# Altium schematic symbol library WE-MCRI.SchLib: 37 symbols
Pins are listed as number, name and electrical type; pins without a type are passive.

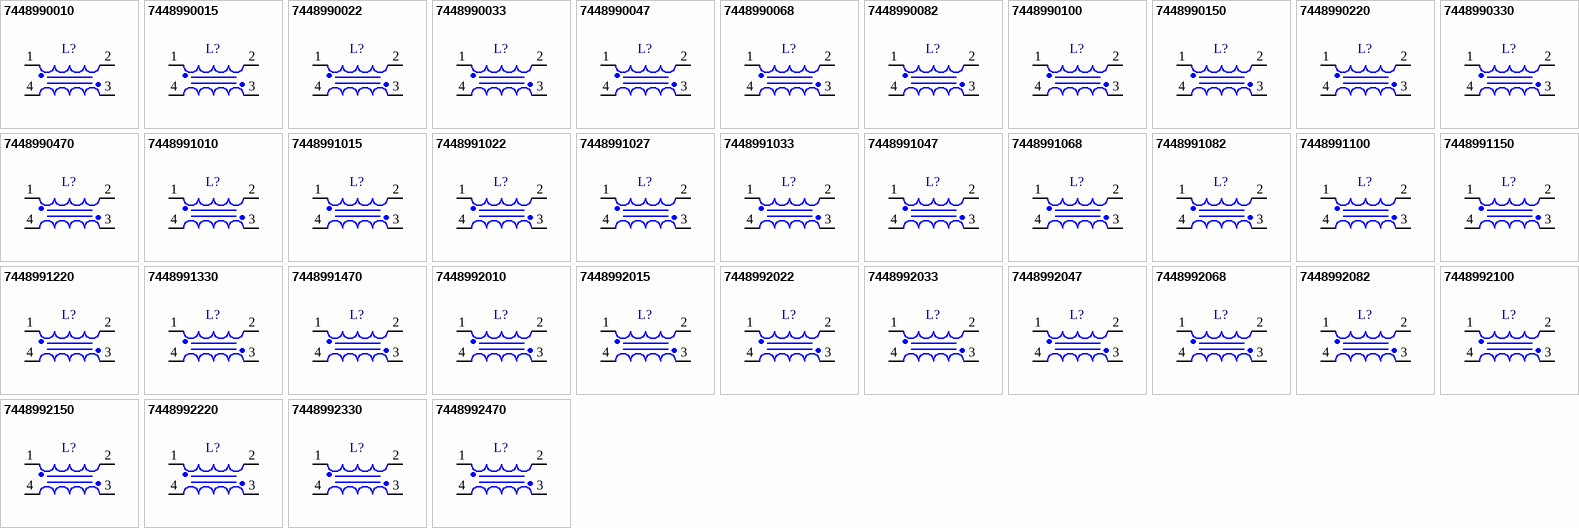
[diagram p0: symbols 7448990010 to 7448992470]

## 7448990010
designator L?, comment 1uH, 17A  (value not drawn)
WE-MCRI SMT Molded Coupled Inductor, size 1090, 1uH, 17A, 4.5mohm; Manufacturer Part Number: 7448990010; Manufacturer: Wurth Elektronik; Case/Size Code: 1090; Saturation Current 1 @ 30%: 43.5A; Turns Ratio: 1:1; Category: Power Inductors; Match Code: WE-MCRI; ComponentLink1Description: Website Link; ComponentLink1URL: https://www.we-online.com; ComponentLink2Description: Datasheet Link; ComponentLink2URL: https://www.we-online.com/components/products/datasheet/7448990010; Mount: Surface Mount; Operating Temperature Min: -40degC; Operating Temperature Max: 125degC; Packaging: Tape and Reel; Length: 11mm; Width: 10mm; Height: 9mm; DC Resistance 1: 4.5mohm; DC Resistance 2: 4.5mohm; Inductance 1: 1uH; Inductance 2: 1uH; Rated Current 1: 17A; Rated Current 2: 17A; Saturation Current 2 @ 30%: 43.5A
footprint WE-MCRI_1090
simulation model 1090_7448990010_1u
pins: 1, 2, 3, 4

## 7448990015
designator L?, comment 1.5uH, 12.5A  (value not drawn)
WE-MCRI SMT Molded Coupled Inductor, size 1090, 1.5uH, 12.5A, 8.8mohm; Manufacturer Part Number: 7448990015; Manufacturer: Wurth Elektronik; Case/Size Code: 1090; Saturation Current 1 @ 30%: 34A; Turns Ratio: 1:1; Category: Power Inductors; Match Code: WE-MCRI; ComponentLink1Description: Website Link; ComponentLink1URL: https://www.we-online.com; ComponentLink2Description: Datasheet Link; ComponentLink2URL: https://www.we-online.com/components/products/datasheet/7448990015; Mount: Surface Mount; Operating Temperature Min: -40degC; Operating Temperature Max: 125degC; Packaging: Tape and Reel; Length: 11mm; Width: 10mm; Height: 9mm; DC Resistance 1: 8.8mohm; DC Resistance 2: 8.8mohm; Inductance 1: 1.5uH; Inductance 2: 1.5uH; Rated Current 1: 12.5A; Rated Current 2: 12.5A; Saturation Current 2 @ 30%: 34A
footprint WE-MCRI_1090
simulation model 1090_7448990015_1.5u
pins: 1, 2, 3, 4

## 7448990022
designator L?, comment 2.2uH, 11.5A  (value not drawn)
WE-MCRI SMT Molded Coupled Inductor, size 1090, 2.2uH, 11.5A, 10.5mohm; Manufacturer Part Number: 7448990022; Manufacturer: Wurth Elektronik; Case/Size Code: 1090; Saturation Current 1 @ 30%: 29.5A; Turns Ratio: 1:1; Category: Power Inductors; Match Code: WE-MCRI; ComponentLink1Description: Website Link; ComponentLink1URL: https://www.we-online.com; ComponentLink2Description: Datasheet Link; ComponentLink2URL: https://www.we-online.com/components/products/datasheet/7448990022; Mount: Surface Mount; Operating Temperature Min: -40degC; Operating Temperature Max: 125degC; Packaging: Tape and Reel; Length: 11mm; Width: 10mm; Height: 9mm; DC Resistance 1: 10.5mohm; DC Resistance 2: 10.5mohm; Inductance 1: 2.2uH; Inductance 2: 2.2uH; Rated Current 1: 11.5A; Rated Current 2: 11.5A; Saturation Current 2 @ 30%: 29.5A
footprint WE-MCRI_1090
simulation model 1090_7448990022_2.2u
pins: 1, 2, 3, 4

## 7448990033
designator L?, comment 3.3uH, 7.5A  (value not drawn)
WE-MCRI SMT Molded Coupled Inductor, size 1090, 3.3uH, 7.5A, 23.5mohm; Manufacturer Part Number: 7448990033; Manufacturer: Wurth Elektronik; Case/Size Code: 1090; Saturation Current 1 @ 30%: 28.2A; Turns Ratio: 1:1; Category: Power Inductors; Match Code: WE-MCRI; ComponentLink1Description: Website Link; ComponentLink1URL: https://www.we-online.com; ComponentLink2Description: Datasheet Link; ComponentLink2URL: https://www.we-online.com/components/products/datasheet/7448990033; Mount: Surface Mount; Operating Temperature Min: -40degC; Operating Temperature Max: 125degC; Packaging: Tape and Reel; Length: 11mm; Width: 10mm; Height: 9mm; DC Resistance 1: 23.5mohm; DC Resistance 2: 23.5mohm; Inductance 1: 3.3uH; Inductance 2: 3.3uH; Rated Current 1: 7.5A; Rated Current 2: 7.5A; Saturation Current 2 @ 30%: 28.2A
footprint WE-MCRI_1090
simulation model 1090_7448990033_3.3u
pins: 1, 2, 3, 4

## 7448990047
designator L?, comment 4.7uH, 5.9A  (value not drawn)
WE-MCRI SMT Molded Coupled Inductor, size 1090, 4.7uH, 5.9A, 36mohm; Manufacturer Part Number: 7448990047; Manufacturer: Wurth Elektronik; Case/Size Code: 1090; Saturation Current 1 @ 30%: 24.2A; Turns Ratio: 1:1; Category: Power Inductors; Match Code: WE-MCRI; ComponentLink1Description: Website Link; ComponentLink1URL: https://www.we-online.com; ComponentLink2Description: Datasheet Link; ComponentLink2URL: https://www.we-online.com/components/products/datasheet/7448990047; Mount: Surface Mount; Operating Temperature Min: -40degC; Operating Temperature Max: 125degC; Packaging: Tape and Reel; Length: 11mm; Width: 10mm; Height: 9mm; DC Resistance 1: 36mohm; DC Resistance 2: 36mohm; Inductance 1: 4.7uH; Inductance 2: 4.7uH; Rated Current 1: 5.9A; Rated Current 2: 5.9A; Saturation Current 2 @ 30%: 24.2A
footprint WE-MCRI_1090
simulation model 1090_7448990047_4.7u
pins: 1, 2, 3, 4

## 7448990068
designator L?, comment 6.8uH, 5A  (value not drawn)
WE-MCRI SMT Molded Coupled Inductor, size 1090, 6.8uH, 5A, 46mohm; Manufacturer Part Number: 7448990068; Manufacturer: Wurth Elektronik; Case/Size Code: 1090; Saturation Current 1 @ 30%: 21.2A; Turns Ratio: 1:1; Category: Power Inductors; Match Code: WE-MCRI; ComponentLink1Description: Website Link; ComponentLink1URL: https://www.we-online.com; ComponentLink2Description: Datasheet Link; ComponentLink2URL: https://www.we-online.com/components/products/datasheet/7448990068; Mount: Surface Mount; Operating Temperature Min: -40degC; Operating Temperature Max: 125degC; Packaging: Tape and Reel; Length: 11mm; Width: 10mm; Height: 9mm; DC Resistance 1: 46mohm; DC Resistance 2: 46mohm; Inductance 1: 6.8uH; Inductance 2: 6.8uH; Rated Current 1: 5A; Rated Current 2: 5A; Saturation Current 2 @ 30%: 21.2A
footprint WE-MCRI_1090
simulation model 1090_7448990068_6.8u
pins: 1, 2, 3, 4

## 7448990082
designator L?, comment 8.2uH, 4.8A  (value not drawn)
WE-MCRI SMT Molded Coupled Inductor, size 1090, 8.2uH, 4.8A, 56mohm; Manufacturer Part Number: 7448990082; Manufacturer: Wurth Elektronik; Case/Size Code: 1090; Saturation Current 1 @ 30%: 18.5A; Turns Ratio: 1:1; Category: Power Inductors; Match Code: WE-MCRI; ComponentLink1Description: Website Link; ComponentLink1URL: https://www.we-online.com; ComponentLink2Description: Datasheet Link; ComponentLink2URL: https://www.we-online.com/components/products/datasheet/7448990082; Mount: Surface Mount; Operating Temperature Min: -40degC; Operating Temperature Max: 125degC; Packaging: Tape and Reel; Length: 11mm; Width: 10mm; Height: 9mm; DC Resistance 1: 56mohm; DC Resistance 2: 56mohm; Inductance 1: 8.2uH; Inductance 2: 8.2uH; Rated Current 1: 4.8A; Rated Current 2: 4.8A; Saturation Current 2 @ 30%: 18.5A
footprint WE-MCRI_1090
simulation model 1090_7448990082_8.2u
pins: 1, 2, 3, 4

## 7448990100
designator L?, comment 10uH, 4.5A  (value not drawn)
WE-MCRI SMT Molded Coupled Inductor, size 1090, 10uH, 4.5A, 62mohm; Manufacturer Part Number: 7448990100; Manufacturer: Wurth Elektronik; Case/Size Code: 1090; Saturation Current 1 @ 30%: 17A; Turns Ratio: 1:1; Category: Power Inductors; Match Code: WE-MCRI; ComponentLink1Description: Website Link; ComponentLink1URL: https://www.we-online.com; ComponentLink2Description: Datasheet Link; ComponentLink2URL: https://www.we-online.com/components/products/datasheet/7448990100; Mount: Surface Mount; Operating Temperature Min: -40degC; Operating Temperature Max: 125degC; Packaging: Tape and Reel; Length: 11mm; Width: 10mm; Height: 9mm; DC Resistance 1: 62mohm; DC Resistance 2: 62mohm; Inductance 1: 10uH; Inductance 2: 10uH; Rated Current 1: 4.5A; Rated Current 2: 4.5A; Saturation Current 2 @ 30%: 17A
footprint WE-MCRI_1090
simulation model 1090_7448990100_10u
pins: 1, 2, 3, 4

## 7448990150
designator L?, comment 15uH, 3.9A  (value not drawn)
WE-MCRI SMT Molded Coupled Inductor, size 1090, 15uH, 3.9A, 78mohm; Manufacturer Part Number: 7448990150; Manufacturer: Wurth Elektronik; Case/Size Code: 1090; Saturation Current 1 @ 30%: 9.5A; Turns Ratio: 1:1; Category: Power Inductors; Match Code: WE-MCRI; ComponentLink1Description: Website Link; ComponentLink1URL: https://www.we-online.com; ComponentLink2Description: Datasheet Link; ComponentLink2URL: https://www.we-online.com/components/products/datasheet/7448990150; Mount: Surface Mount; Operating Temperature Min: -40degC; Operating Temperature Max: 125degC; Packaging: Tape and Reel; Length: 11mm; Width: 10mm; Height: 9mm; DC Resistance 1: 78mohm; DC Resistance 2: 78mohm; Inductance 1: 15uH; Inductance 2: 15uH; Rated Current 1: 3.9A; Rated Current 2: 3.9A; Saturation Current 2 @ 30%: 9.5A
footprint WE-MCRI_1090
simulation model 1090_7448990150_15u
pins: 1, 2, 3, 4

## 7448990220
designator L?, comment 22uH, 3.4A  (value not drawn)
WE-MCRI SMT Molded Coupled Inductor, size 1090, 22uH, 3.4A, 95mohm; Manufacturer Part Number: 7448990220; Manufacturer: Wurth Elektronik; Case/Size Code: 1090; Saturation Current 1 @ 30%: 8.1A; Turns Ratio: 1:1; Category: Power Inductors; Match Code: WE-MCRI; ComponentLink1Description: Website Link; ComponentLink1URL: https://www.we-online.com; ComponentLink2Description: Datasheet Link; ComponentLink2URL: https://www.we-online.com/components/products/datasheet/7448990220; Mount: Surface Mount; Operating Temperature Min: -40degC; Operating Temperature Max: 125degC; Packaging: Tape and Reel; Length: 11mm; Width: 10mm; Height: 9mm; DC Resistance 1: 95mohm; DC Resistance 2: 95mohm; Inductance 1: 22uH; Inductance 2: 22uH; Rated Current 1: 3.4A; Rated Current 2: 3.4A; Saturation Current 2 @ 30%: 8.1A
footprint WE-MCRI_1090
simulation model 1090_7448990220_22u
pins: 1, 2, 3, 4

## 7448990330
designator L?, comment 33uH, 2.9A  (value not drawn)
WE-MCRI SMT Molded Coupled Inductor, size 1090, 33uH, 2.9A, 130mohm; Manufacturer Part Number: 7448990330; Manufacturer: Wurth Elektronik; Case/Size Code: 1090; Saturation Current 1 @ 30%: 6.8A; Turns Ratio: 1:1; Category: Power Inductors; Match Code: WE-MCRI; ComponentLink1Description: Website Link; ComponentLink1URL: https://www.we-online.com; ComponentLink2Description: Datasheet Link; ComponentLink2URL: https://www.we-online.com/components/products/datasheet/7448990330; Mount: Surface Mount; Operating Temperature Min: -40degC; Operating Temperature Max: 125degC; Packaging: Tape and Reel; Length: 11mm; Width: 10mm; Height: 9mm; DC Resistance 1: 130mohm; DC Resistance 2: 130mohm; Inductance 1: 33uH; Inductance 2: 33uH; Rated Current 1: 2.9A; Rated Current 2: 2.9A; Saturation Current 2 @ 30%: 6.8A
footprint WE-MCRI_1090
simulation model 1090_7448990330_33u
pins: 1, 2, 3, 4

## 7448990470
designator L?, comment 47uH, 2.3A  (value not drawn)
WE-MCRI SMT Molded Coupled Inductor, size 1090, 47uH, 2.3A, 216mohm; Manufacturer Part Number: 7448990470; Manufacturer: Wurth Elektronik; Case/Size Code: 1090; Saturation Current 1 @ 30%: 6A; Turns Ratio: 1:1; Category: Power Inductors; Match Code: WE-MCRI; ComponentLink1Description: Website Link; ComponentLink1URL: https://www.we-online.com; ComponentLink2Description: Datasheet Link; ComponentLink2URL: https://www.we-online.com/components/products/datasheet/7448990470; Mount: Surface Mount; Operating Temperature Min: -40degC; Operating Temperature Max: 125degC; Packaging: Tape and Reel; Length: 11mm; Width: 10mm; Height: 9mm; DC Resistance 1: 216mohm; DC Resistance 2: 216mohm; Inductance 1: 47uH; Inductance 2: 47uH; Rated Current 1: 2.3A; Rated Current 2: 2.3A; Saturation Current 2 @ 30%: 6A
footprint WE-MCRI_1090
simulation model 1090_7448990470_47u
pins: 1, 2, 3, 4

## 7448991010
designator L?, comment 1uH, 12A  (value not drawn)
WE-MCRI SMT Molded Coupled Inductor, size 1040, 1uH, 12A, 6.3mohm; Manufacturer Part Number: 7448991010; Manufacturer: Wurth Elektronik; Case/Size Code: 1040; Saturation Current 1 @ 30%: 30.2A; Turns Ratio: 1:1; Category: Power Inductors; Match Code: WE-MCRI; ComponentLink1Description: Website Link; ComponentLink1URL: https://www.we-online.com; ComponentLink2Description: Datasheet Link; ComponentLink2URL: https://www.we-online.com/components/products/datasheet/7448991010; Mount: Surface Mount; Operating Temperature Min: -40degC; Operating Temperature Max: 125degC; Packaging: Tape and Reel; Length: 11mm; Width: 10mm; Height: 4mm; DC Resistance 1: 6.3mohm; DC Resistance 2: 6.3mohm; Inductance 1: 1uH; Inductance 2: 1uH; Rated Current 1: 12A; Rated Current 2: 12A; Saturation Current 2 @ 30%: 30.2A
footprint WE-MCRI_1040
pins: 1, 2, 3, 4

## 7448991015
designator L?, comment 1.5uH, 11.1A  (value not drawn)
WE-MCRI SMT Molded Coupled Inductor, size 1040, 1.5uH, 11.1A, 8.6mohm; Manufacturer Part Number: 7448991015; Manufacturer: Wurth Elektronik; Case/Size Code: 1040; Saturation Current 1 @ 30%: 28.1A; Turns Ratio: 1:1; Category: Power Inductors; Match Code: WE-MCRI; ComponentLink1Description: Website Link; ComponentLink1URL: https://www.we-online.com; ComponentLink2Description: Datasheet Link; ComponentLink2URL: https://www.we-online.com/components/products/datasheet/7448991015; Mount: Surface Mount; Operating Temperature Min: -40degC; Operating Temperature Max: 125degC; Packaging: Tape and Reel; Length: 11mm; Width: 10mm; Height: 4mm; DC Resistance 1: 8.6mohm; DC Resistance 2: 8.6mohm; Inductance 1: 1.5uH; Inductance 2: 1.5uH; Rated Current 1: 11.1A; Rated Current 2: 11.1A; Saturation Current 2 @ 30%: 28.1A
footprint WE-MCRI_1040
pins: 1, 2, 3, 4

## 7448991022
designator L?, comment 2.2uH, 8.2A  (value not drawn)
WE-MCRI SMT Molded Coupled Inductor, size 1040, 2.2uH, 8.2A, 14mohm; Manufacturer Part Number: 7448991022; Manufacturer: Wurth Elektronik; Case/Size Code: 1040; Saturation Current 1 @ 30%: 20.6A; Turns Ratio: 1:1; Category: Power Inductors; Match Code: WE-MCRI; ComponentLink1Description: Website Link; ComponentLink1URL: https://www.we-online.com; ComponentLink2Description: Datasheet Link; ComponentLink2URL: https://www.we-online.com/components/products/datasheet/7448991022; Mount: Surface Mount; Operating Temperature Min: -40degC; Operating Temperature Max: 125degC; Packaging: Tape and Reel; Length: 11mm; Width: 10mm; Height: 4mm; DC Resistance 1: 14mohm; DC Resistance 2: 14mohm; Inductance 1: 2.2uH; Inductance 2: 2.2uH; Rated Current 1: 8.2A; Rated Current 2: 8.2A; Saturation Current 2 @ 30%: 20.6A
footprint WE-MCRI_1040
pins: 1, 2, 3, 4

## 7448991027
designator L?, comment 2.7uH, 7.4A  (value not drawn)
WE-MCRI SMT Molded Coupled Inductor, size 1040, 2.7uH, 7.4A, 16.3mohm; Manufacturer Part Number: 7448991027; Manufacturer: Wurth Elektronik; Case/Size Code: 1040; Saturation Current 1 @ 30%: 16.5A; Turns Ratio: 1:1; Category: Power Inductors; Match Code: WE-MCRI; ComponentLink1Description: Website Link; ComponentLink1URL: https://www.we-online.com; ComponentLink2Description: Datasheet Link; ComponentLink2URL: https://www.we-online.com/components/products/datasheet/7448991027; Mount: Surface Mount; Operating Temperature Min: -40degC; Operating Temperature Max: 125degC; Packaging: Tape and Reel; Length: 11mm; Width: 10mm; Height: 4mm; DC Resistance 1: 16.3mohm; DC Resistance 2: 16.3mohm; Inductance 1: 2.7uH; Inductance 2: 2.7uH; Rated Current 1: 7.4A; Rated Current 2: 7.4A; Saturation Current 2 @ 30%: 16.5A
footprint WE-MCRI_1040
pins: 1, 2, 3, 4

## 7448991033
designator L?, comment 3.3uH, 6.8A  (value not drawn)
WE-MCRI SMT Molded Coupled Inductor, size 1040, 3.3uH, 6.8A, 20.7mohm; Manufacturer Part Number: 7448991033; Manufacturer: Wurth Elektronik; Case/Size Code: 1040; Saturation Current 1 @ 30%: 14.3A; Turns Ratio: 1:1; Category: Power Inductors; Match Code: WE-MCRI; ComponentLink1Description: Website Link; ComponentLink1URL: https://www.we-online.com; ComponentLink2Description: Datasheet Link; ComponentLink2URL: https://www.we-online.com/components/products/datasheet/7448991033; Mount: Surface Mount; Operating Temperature Min: -40degC; Operating Temperature Max: 125degC; Packaging: Tape and Reel; Length: 11mm; Width: 10mm; Height: 4mm; DC Resistance 1: 20.7mohm; DC Resistance 2: 20.7mohm; Inductance 1: 3.3uH; Inductance 2: 3.3uH; Rated Current 1: 6.8A; Rated Current 2: 6.8A; Saturation Current 2 @ 30%: 14.3A
footprint WE-MCRI_1040
pins: 1, 2, 3, 4

## 7448991047
designator L?, comment 4.7uH, 6.2A  (value not drawn)
WE-MCRI SMT Molded Coupled Inductor, size 1040, 4.7uH, 6.2A, 24.4mohm; Manufacturer Part Number: 7448991047; Manufacturer: Wurth Elektronik; Case/Size Code: 1040; Saturation Current 1 @ 30%: 13.8A; Turns Ratio: 1:1; Category: Power Inductors; Match Code: WE-MCRI; ComponentLink1Description: Website Link; ComponentLink1URL: https://www.we-online.com; ComponentLink2Description: Datasheet Link; ComponentLink2URL: https://www.we-online.com/components/products/datasheet/7448991047; Mount: Surface Mount; Operating Temperature Min: -40degC; Operating Temperature Max: 125degC; Packaging: Tape and Reel; Length: 11mm; Width: 10mm; Height: 4mm; DC Resistance 1: 24.4mohm; DC Resistance 2: 24.4mohm; Inductance 1: 4.7uH; Inductance 2: 4.7uH; Rated Current 1: 6.2A; Rated Current 2: 6.2A; Saturation Current 2 @ 30%: 13.8A
footprint WE-MCRI_1040
pins: 1, 2, 3, 4

## 7448991068
designator L?, comment 6.8uH, 5A  (value not drawn)
WE-MCRI SMT Molded Coupled Inductor, size 1040, 6.8uH, 5A, 38mohm; Manufacturer Part Number: 7448991068; Manufacturer: Wurth Elektronik; Case/Size Code: 1040; Saturation Current 1 @ 30%: 12A; Turns Ratio: 1:1; Category: Power Inductors; Match Code: WE-MCRI; ComponentLink1Description: Website Link; ComponentLink1URL: https://www.we-online.com; ComponentLink2Description: Datasheet Link; ComponentLink2URL: https://www.we-online.com/components/products/datasheet/7448991068; Mount: Surface Mount; Operating Temperature Min: -40degC; Operating Temperature Max: 125degC; Packaging: Tape and Reel; Length: 11mm; Width: 10mm; Height: 4mm; DC Resistance 1: 38mohm; DC Resistance 2: 38mohm; Inductance 1: 6.8uH; Inductance 2: 6.8uH; Rated Current 1: 5A; Rated Current 2: 5A; Saturation Current 2 @ 30%: 12A
footprint WE-MCRI_1040
pins: 1, 2, 3, 4

## 7448991082
designator L?, comment 8.2uH, 4.7A  (value not drawn)
WE-MCRI SMT Molded Coupled Inductor, size 1040, 8.2uH, 4.7A, 41.2mohm; Manufacturer Part Number: 7448991082; Manufacturer: Wurth Elektronik; Case/Size Code: 1040; Saturation Current 1 @ 30%: 11.3A; Turns Ratio: 1:1; Category: Power Inductors; Match Code: WE-MCRI; ComponentLink1Description: Website Link; ComponentLink1URL: https://www.we-online.com; ComponentLink2Description: Datasheet Link; ComponentLink2URL: https://www.we-online.com/components/products/datasheet/7448991082; Mount: Surface Mount; Operating Temperature Min: -40degC; Operating Temperature Max: 125degC; Packaging: Tape and Reel; Length: 11mm; Width: 10mm; Height: 4mm; DC Resistance 1: 41.2mohm; DC Resistance 2: 41.2mohm; Inductance 1: 8.2uH; Inductance 2: 8.2uH; Rated Current 1: 4.7A; Rated Current 2: 4.7A; Saturation Current 2 @ 30%: 11.3A
footprint WE-MCRI_1040
pins: 1, 2, 3, 4

## 7448991100
designator L?, comment 10uH, 3.7A  (value not drawn)
WE-MCRI SMT Molded Coupled Inductor, size 1040, 10uH, 3.7A, 55mohm; Manufacturer Part Number: 7448991100; Manufacturer: Wurth Elektronik; Case/Size Code: 1040; Saturation Current 1 @ 30%: 9.8A; Turns Ratio: 1:1; Category: Power Inductors; Match Code: WE-MCRI; ComponentLink1Description: Website Link; ComponentLink1URL: https://www.we-online.com; ComponentLink2Description: Datasheet Link; ComponentLink2URL: https://www.we-online.com/components/products/datasheet/7448991100; Mount: Surface Mount; Operating Temperature Min: -40degC; Operating Temperature Max: 125degC; Packaging: Tape and Reel; Length: 11mm; Width: 10mm; Height: 4mm; DC Resistance 1: 55mohm; DC Resistance 2: 55mohm; Inductance 1: 10uH; Inductance 2: 10uH; Rated Current 1: 3.7A; Rated Current 2: 3.7A; Saturation Current 2 @ 30%: 9.8A
footprint WE-MCRI_1040
pins: 1, 2, 3, 4

## 7448991150
designator L?, comment 15uH, 3.25A  (value not drawn)
WE-MCRI SMT Molded Coupled Inductor, size 1040, 15uH, 3.25A, 83mohm; Manufacturer Part Number: 7448991150; Manufacturer: Wurth Elektronik; Case/Size Code: 1040; Saturation Current 1 @ 30%: 7.8A; Turns Ratio: 1:1; Category: Power Inductors; Match Code: WE-MCRI; ComponentLink1Description: Website Link; ComponentLink1URL: https://www.we-online.com; ComponentLink2Description: Datasheet Link; ComponentLink2URL: https://www.we-online.com/components/products/datasheet/7448991150; Mount: Surface Mount; Operating Temperature Min: -40degC; Operating Temperature Max: 125degC; Packaging: Tape and Reel; Length: 11mm; Width: 10mm; Height: 4mm; DC Resistance 1: 83mohm; DC Resistance 2: 83mohm; Inductance 1: 15uH; Inductance 2: 15uH; Rated Current 1: 3.25A; Rated Current 2: 3.25A; Saturation Current 2 @ 30%: 7.8A
footprint WE-MCRI_1040
pins: 1, 2, 3, 4

## 7448991220
designator L?, comment 22uH, 2.2A  (value not drawn)
WE-MCRI SMT Molded Coupled Inductor, size 1040, 22uH, 2.2A, 144mohm; Manufacturer Part Number: 7448991220; Manufacturer: Wurth Elektronik; Case/Size Code: 1040; Saturation Current 1 @ 30%: 6.1A; Turns Ratio: 1:1; Category: Power Inductors; Match Code: WE-MCRI; ComponentLink1Description: Website Link; ComponentLink1URL: https://www.we-online.com; ComponentLink2Description: Datasheet Link; ComponentLink2URL: https://www.we-online.com/components/products/datasheet/7448991220; Mount: Surface Mount; Operating Temperature Min: -40degC; Operating Temperature Max: 125degC; Packaging: Tape and Reel; Length: 11mm; Width: 10mm; Height: 4mm; DC Resistance 1: 144mohm; DC Resistance 2: 144mohm; Inductance 1: 22uH; Inductance 2: 22uH; Rated Current 1: 2.2A; Rated Current 2: 2.2A; Saturation Current 2 @ 30%: 6.1A
footprint WE-MCRI_1040
pins: 1, 2, 3, 4

## 7448991330
designator L?, comment 33uH, 2.05A  (value not drawn)
WE-MCRI SMT Molded Coupled Inductor, size 1040, 33uH, 2.05A, 207mohm; Manufacturer Part Number: 7448991330; Manufacturer: Wurth Elektronik; Case/Size Code: 1040; Saturation Current 1 @ 30%: 5A; Turns Ratio: 1:1; Category: Power Inductors; Match Code: WE-MCRI; ComponentLink1Description: Website Link; ComponentLink1URL: https://www.we-online.com; ComponentLink2Description: Datasheet Link; ComponentLink2URL: https://www.we-online.com/components/products/datasheet/7448991330; Mount: Surface Mount; Operating Temperature Min: -40degC; Operating Temperature Max: 125degC; Packaging: Tape and Reel; Length: 11mm; Width: 10mm; Height: 4mm; DC Resistance 1: 207mohm; DC Resistance 2: 207mohm; Inductance 1: 33uH; Inductance 2: 33uH; Rated Current 1: 2.05A; Rated Current 2: 2.05A; Saturation Current 2 @ 30%: 5A
footprint WE-MCRI_1040
pins: 1, 2, 3, 4

## 7448991470
designator L?, comment 47uH, 1.5A  (value not drawn)
WE-MCRI SMT Molded Coupled Inductor, size 1040, 47uH, 1.5A, 312mohm; Manufacturer Part Number: 7448991470; Manufacturer: Wurth Elektronik; Case/Size Code: 1040; Saturation Current 1 @ 30%: 4.4A; Turns Ratio: 1:1; Category: Power Inductors; Match Code: WE-MCRI; ComponentLink1Description: Website Link; ComponentLink1URL: https://www.we-online.com; ComponentLink2Description: Datasheet Link; ComponentLink2URL: https://www.we-online.com/components/products/datasheet/7448991470; Mount: Surface Mount; Operating Temperature Min: -40degC; Operating Temperature Max: 125degC; Packaging: Tape and Reel; Length: 11mm; Width: 10mm; Height: 4mm; DC Resistance 1: 312mohm; DC Resistance 2: 312mohm; Inductance 1: 47uH; Inductance 2: 47uH; Rated Current 1: 1.5A; Rated Current 2: 1.5A; Saturation Current 2 @ 30%: 4.4A
footprint WE-MCRI_1040
pins: 1, 2, 3, 4

## 7448992010
designator L?, comment 1uH, 19.3A  (value not drawn)
WE-MCRI SMT Molded Coupled Inductor, size 1090HL, 1uH, 19.3A, 4.7mohm; Manufacturer Part Number: 7448992010; Manufacturer: Wurth Elektronik; Saturation Current 1 @ 30%: 36A; Turns Ratio: 1:1; Category: Power Inductors; Match Code: WE-MCRI; ComponentLink1Description: Website Link; ComponentLink1URL: https://www.we-online.com; ComponentLink2Description: Datasheet Link; ComponentLink2URL: https://www.we-online.com/components/products/datasheet/7448992010; Mount: Surface Mount; Operating Temperature Min: -40degC; Operating Temperature Max: 125degC; Packaging: Tape and Reel; Case/Size Code: 1090HL; Length: 11mm; Width: 10mm; Height: 9mm; DC Resistance 1: 4.7mohm; DC Resistance 2: 4.7mohm; Inductance 1: 1uH; Inductance 2: 1uH; Performance Rated Current 1: 19.3A; Performance Rated Current 2: 19.3A; Saturation Current 2 @ 30%: 36A
footprint WE-MCRI_1090HL
simulation model 1090HL_7448992010_1u
pins: 1, 2, 3, 4

## 7448992015
designator L?, comment 1.5uH, 15.2A  (value not drawn)
WE-MCRI SMT Molded Coupled Inductor, size 1090HL, 1.5uH, 15.2A, 7.9mohm; Manufacturer Part Number: 7448992015; Manufacturer: Wurth Elektronik; Saturation Current 1 @ 30%: 31A; Turns Ratio: 1:1; Category: Power Inductors; Match Code: WE-MCRI; ComponentLink1Description: Website Link; ComponentLink1URL: https://www.we-online.com; ComponentLink2Description: Datasheet Link; ComponentLink2URL: https://www.we-online.com/components/products/datasheet/7448992015; Mount: Surface Mount; Operating Temperature Min: -40degC; Operating Temperature Max: 125degC; Packaging: Tape and Reel; Case/Size Code: 1090HL; Length: 11mm; Width: 10mm; Height: 9mm; DC Resistance 1: 7.9mohm; DC Resistance 2: 7.9mohm; Inductance 1: 1.5uH; Inductance 2: 1.5uH; Performance Rated Current 1: 15.2A; Performance Rated Current 2: 15.2A; Saturation Current 2 @ 30%: 31A
footprint WE-MCRI_1090HL
simulation model 1090HL_7448992015_1.5u
pins: 1, 2, 3, 4

## 7448992022
designator L?, comment 2.2uH, 13A  (value not drawn)
WE-MCRI SMT Molded Coupled Inductor, size 1090HL, 2.2uH, 13A, 9.5mohm; Manufacturer Part Number: 7448992022; Manufacturer: Wurth Elektronik; Saturation Current 1 @ 30%: 30A; Turns Ratio: 1:1; Category: Power Inductors; Match Code: WE-MCRI; ComponentLink1Description: Website Link; ComponentLink1URL: https://www.we-online.com; ComponentLink2Description: Datasheet Link; ComponentLink2URL: https://www.we-online.com/components/products/datasheet/7448992022; Mount: Surface Mount; Operating Temperature Min: -40degC; Operating Temperature Max: 125degC; Packaging: Tape and Reel; Case/Size Code: 1090HL; Length: 11mm; Width: 10mm; Height: 9mm; DC Resistance 1: 9.5mohm; DC Resistance 2: 9.5mohm; Inductance 1: 2.2uH; Inductance 2: 2.2uH; Performance Rated Current 1: 13A; Performance Rated Current 2: 13A; Saturation Current 2 @ 30%: 30A
footprint WE-MCRI_1090HL
simulation model 1090HL_7448992022_2.2u
pins: 1, 2, 3, 4

## 7448992033
designator L?, comment 3.3uH, 8.4A  (value not drawn)
WE-MCRI SMT Molded Coupled Inductor, size 1090HL, 3.3uH, 8.4A, 23mohm; Manufacturer Part Number: 7448992033; Manufacturer: Wurth Elektronik; Saturation Current 1 @ 30%: 26A; Turns Ratio: 1:1; Category: Power Inductors; Match Code: WE-MCRI; ComponentLink1Description: Website Link; ComponentLink1URL: https://www.we-online.com; ComponentLink2Description: Datasheet Link; ComponentLink2URL: https://www.we-online.com/components/products/datasheet/7448992033; Mount: Surface Mount; Operating Temperature Min: -40degC; Operating Temperature Max: 125degC; Packaging: Tape and Reel; Case/Size Code: 1090HL; Length: 11mm; Width: 10mm; Height: 9mm; DC Resistance 1: 23mohm; DC Resistance 2: 23mohm; Inductance 1: 3.3uH; Inductance 2: 3.3uH; Performance Rated Current 1: 8.4A; Performance Rated Current 2: 8.4A; Saturation Current 2 @ 30%: 26A
footprint WE-MCRI_1090HL
simulation model 1090HL_7448992033_3.3u
pins: 1, 2, 3, 4

## 7448992047
designator L?, comment 4.7uH, 6.5A  (value not drawn)
WE-MCRI SMT Molded Coupled Inductor, size 1090HL, 4.7uH, 6.5A, 36mohm; Manufacturer Part Number: 7448992047; Manufacturer: Wurth Elektronik; Saturation Current 1 @ 30%: 22A; Turns Ratio: 1:1; Category: Power Inductors; Match Code: WE-MCRI; ComponentLink1Description: Website Link; ComponentLink1URL: https://www.we-online.com; ComponentLink2Description: Datasheet Link; ComponentLink2URL: https://www.we-online.com/components/products/datasheet/7448992047; Mount: Surface Mount; Operating Temperature Min: -40degC; Operating Temperature Max: 125degC; Packaging: Tape and Reel; Case/Size Code: 1090HL; Length: 11mm; Width: 10mm; Height: 9mm; DC Resistance 1: 36mohm; DC Resistance 2: 36mohm; Inductance 1: 4.7uH; Inductance 2: 4.7uH; Performance Rated Current 1: 6.5A; Performance Rated Current 2: 6.5A; Saturation Current 2 @ 30%: 22A
footprint WE-MCRI_1090HL
simulation model 1090HL_7448992047_4.7u
pins: 1, 2, 3, 4

## 7448992068
designator L?, comment 6.8uH, 5.5A  (value not drawn)
WE-MCRI SMT Molded Coupled Inductor, size 1090HL, 6.8uH, 5.5A, 46mohm; Manufacturer Part Number: 7448992068; Manufacturer: Wurth Elektronik; Saturation Current 1 @ 30%: 19A; Turns Ratio: 1:1; Category: Power Inductors; Match Code: WE-MCRI; ComponentLink1Description: Website Link; ComponentLink1URL: https://www.we-online.com; ComponentLink2Description: Datasheet Link; ComponentLink2URL: https://www.we-online.com/components/products/datasheet/7448992068; Mount: Surface Mount; Operating Temperature Min: -40degC; Operating Temperature Max: 125degC; Packaging: Tape and Reel; Case/Size Code: 1090HL; Length: 11mm; Width: 10mm; Height: 9mm; DC Resistance 1: 46mohm; DC Resistance 2: 46mohm; Inductance 1: 6.8uH; Inductance 2: 6.8uH; Performance Rated Current 1: 5.5A; Performance Rated Current 2: 5.5A; Saturation Current 2 @ 30%: 19A
footprint WE-MCRI_1090HL
simulation model 1090HL_7448992068_6.8u
pins: 1, 2, 3, 4

## 7448992082
designator L?, comment 8.2uH, 4.9A  (value not drawn)
WE-MCRI SMT Molded Coupled Inductor, size 1090HL, 8.2uH, 4.9A, 57mohm; Manufacturer Part Number: 7448992082; Manufacturer: Wurth Elektronik; Saturation Current 1 @ 30%: 17.7A; Turns Ratio: 1:1; Category: Power Inductors; Match Code: WE-MCRI; ComponentLink1Description: Website Link; ComponentLink1URL: https://www.we-online.com; ComponentLink2Description: Datasheet Link; ComponentLink2URL: https://www.we-online.com/components/products/datasheet/7448992082; Mount: Surface Mount; Operating Temperature Min: -40degC; Operating Temperature Max: 125degC; Packaging: Tape and Reel; Case/Size Code: 1090HL; Length: 11mm; Width: 10mm; Height: 9mm; DC Resistance 1: 57mohm; DC Resistance 2: 57mohm; Inductance 1: 8.2uH; Inductance 2: 8.2uH; Performance Rated Current 1: 4.9A; Performance Rated Current 2: 4.9A; Saturation Current 2 @ 30%: 17.7A
footprint WE-MCRI_1090HL
simulation model 1090HL_7448992082_8.2u
pins: 1, 2, 3, 4

## 7448992100
designator L?, comment 10uH, 4.8A  (value not drawn)
WE-MCRI SMT Molded Coupled Inductor, size 1090HL, 10uH, 4.8A, 60mohm; Manufacturer Part Number: 7448992100; Manufacturer: Wurth Elektronik; Saturation Current 1 @ 30%: 16.5A; Turns Ratio: 1:1; Category: Power Inductors; Match Code: WE-MCRI; ComponentLink1Description: Website Link; ComponentLink1URL: https://www.we-online.com; ComponentLink2Description: Datasheet Link; ComponentLink2URL: https://www.we-online.com/components/products/datasheet/7448992100; Mount: Surface Mount; Operating Temperature Min: -40degC; Operating Temperature Max: 125degC; Packaging: Tape and Reel; Case/Size Code: 1090HL; Length: 11mm; Width: 10mm; Height: 9mm; DC Resistance 1: 60mohm; DC Resistance 2: 60mohm; Inductance 1: 10uH; Inductance 2: 10uH; Performance Rated Current 1: 4.8A; Performance Rated Current 2: 4.8A; Saturation Current 2 @ 30%: 16.5A
footprint WE-MCRI_1090HL
simulation model 1090HL_7448992100_10u
pins: 1, 2, 3, 4

## 7448992150
designator L?, comment 15uH, 4.8A  (value not drawn)
WE-MCRI SMT Molded Coupled Inductor, size 1090HL, 15uH, 4.8A, 76mohm; Manufacturer Part Number: 7448992150; Manufacturer: Wurth Elektronik; Saturation Current 1 @ 30%: 8.9A; Turns Ratio: 1:1; Category: Power Inductors; Match Code: WE-MCRI; ComponentLink1Description: Website Link; ComponentLink1URL: https://www.we-online.com; ComponentLink2Description: Datasheet Link; ComponentLink2URL: https://www.we-online.com/components/products/datasheet/7448992150; Mount: Surface Mount; Operating Temperature Min: -40degC; Operating Temperature Max: 125degC; Packaging: Tape and Reel; Case/Size Code: 1090HL; Length: 11mm; Width: 10mm; Height: 9mm; DC Resistance 1: 76mohm; DC Resistance 2: 76mohm; Inductance 1: 15uH; Inductance 2: 15uH; Performance Rated Current 1: 4.8A; Performance Rated Current 2: 4.8A; Saturation Current 2 @ 30%: 8.9A
footprint WE-MCRI_1090HL
simulation model 1090HL_7448992150_15u
pins: 1, 2, 3, 4

## 7448992220
designator L?, comment 22uH, 4.2A  (value not drawn)
WE-MCRI SMT Molded Coupled Inductor, size 1090HL, 22uH, 4.2A, 93mohm; Manufacturer Part Number: 7448992220; Manufacturer: Wurth Elektronik; Saturation Current 1 @ 30%: 7.7A; Turns Ratio: 1:1; Category: Power Inductors; Match Code: WE-MCRI; ComponentLink1Description: Website Link; ComponentLink1URL: https://www.we-online.com; ComponentLink2Description: Datasheet Link; ComponentLink2URL: https://www.we-online.com/components/products/datasheet/7448992220; Mount: Surface Mount; Operating Temperature Min: -40degC; Operating Temperature Max: 125degC; Packaging: Tape and Reel; Case/Size Code: 1090HL; Length: 11mm; Width: 10mm; Height: 9mm; DC Resistance 1: 93mohm; DC Resistance 2: 93mohm; Inductance 1: 22uH; Inductance 2: 22uH; Performance Rated Current 1: 4.2A; Performance Rated Current 2: 4.2A; Saturation Current 2 @ 30%: 7.7A
footprint WE-MCRI_1090HL
simulation model 1090HL_7448992220_22u
pins: 1, 2, 3, 4

## 7448992330
designator L?, comment 33uH, 3.6A  (value not drawn)
WE-MCRI SMT Molded Coupled Inductor, size 1090HL, 33uH, 3.6A, 128mohm; Manufacturer Part Number: 7448992330; Manufacturer: Wurth Elektronik; Saturation Current 1 @ 30%: 6.4A; Turns Ratio: 1:1; Category: Power Inductors; Match Code: WE-MCRI; ComponentLink1Description: Website Link; ComponentLink1URL: https://www.we-online.com; ComponentLink2Description: Datasheet Link; ComponentLink2URL: https://www.we-online.com/components/products/datasheet/7448992330; Mount: Surface Mount; Operating Temperature Min: -40degC; Operating Temperature Max: 125degC; Packaging: Tape and Reel; Case/Size Code: 1090HL; Length: 11mm; Width: 10mm; Height: 9mm; DC Resistance 1: 128mohm; DC Resistance 2: 128mohm; Inductance 1: 33uH; Inductance 2: 33uH; Performance Rated Current 1: 3.6A; Performance Rated Current 2: 3.6A; Saturation Current 2 @ 30%: 6.4A
footprint WE-MCRI_1090HL
simulation model 1090HL_7448992330_33u
pins: 1, 2, 3, 4

## 7448992470
designator L?, comment 47uH, 2.9A  (value not drawn)
WE-MCRI SMT Molded Coupled Inductor, size 1090HL, 47uH, 2.9A, 206mohm; Manufacturer Part Number: 7448992470; Manufacturer: Wurth Elektronik; Saturation Current 1 @ 30%: 4.5A; Turns Ratio: 1:1; Category: Power Inductors; Match Code: WE-MCRI; ComponentLink1Description: Website Link; ComponentLink1URL: https://www.we-online.com; ComponentLink2Description: Datasheet Link; ComponentLink2URL: https://www.we-online.com/components/products/datasheet/7448992470; Mount: Surface Mount; Operating Temperature Min: -40degC; Operating Temperature Max: 125degC; Packaging: Tape and Reel; Case/Size Code: 1090HL; Length: 11mm; Width: 10mm; Height: 9mm; DC Resistance 1: 206mohm; DC Resistance 2: 206mohm; Inductance 1: 47uH; Inductance 2: 47uH; Performance Rated Current 1: 2.9A; Performance Rated Current 2: 2.9A; Saturation Current 2 @ 30%: 4.5A
footprint WE-MCRI_1090HL
simulation model 1090HL_7448992470_47u
pins: 1, 2, 3, 4